# Altium footprint library PCB - INDUCTOR - PANASONIC PCC-M0645M.PCBLIB: 1 footprints
Each footprint in its own frame and in the unit in brackets; x right, y up, seen from the top. Pads: shape width x height; smd on the part's side, far side on the other; paste and mask are expansions set on the pad; w line width, h text height; cw(c..) or ccw(c..) is an arc to the next point about the centre after c.
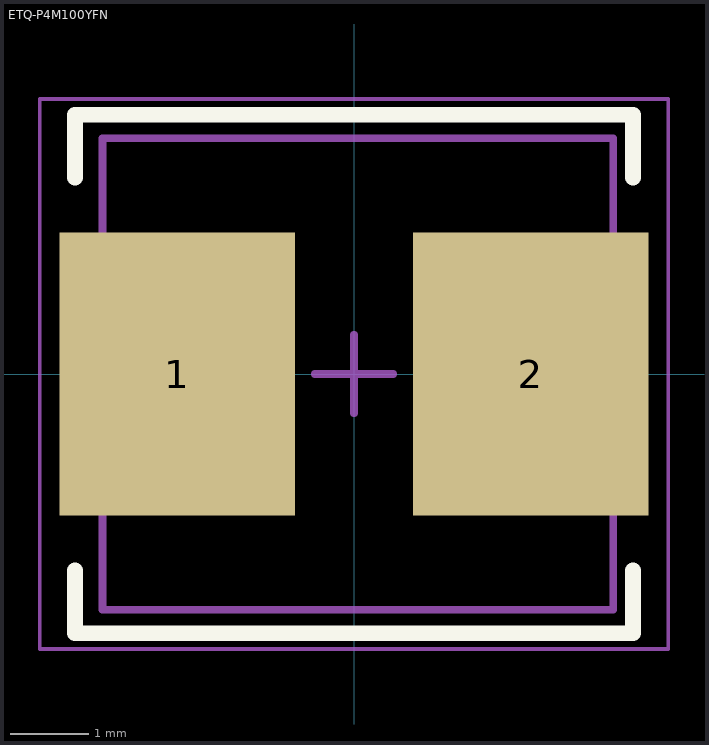
[diagram p0: the footprint, top view; thin cyan lines are the x and y axes]

## ETQ-P4M100YFN [mm] "Precision Wire Wound Inductor, 2-Leads, Body 7.10x7.00mm, IPC Medium Density"
height 4.5
pads (2):
  rect 3x3.6 smd mask+0.102: 1(-2.25,0) 2(2.25,0)
Top Overlay:
  lines w0.2: -3.55,-2.5 -3.55,-3.3 3.55,-3.3 3.55,-2.5 ; -3.55,2.5 -3.55,3.3 3.55,3.3 3.55,2.5
Mechanical 13:
  lines w0.1: -3.2,-3 3.3,-3 3.3,3 -3.2,3 -3.2,-3
Mechanical 15:
  lines w0.05: -4,-3.5 4,-3.5 4,3.5 -4,3.5 -4,-3.5
  lines w0.1: -0.5,0 0.5,0 ; 0,-0.5 0,0.5
3D body "Panasonic-M0645M.STEP": height 4.47, standoff 0.04, extent -3.25,-3 3.25,3